# Altium schematic symbol library lm1117.SchLib: 1 symbol
Pins are listed as number, name and electrical type; pins without a type are passive.

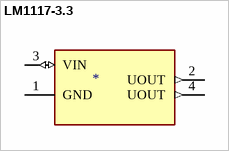
[diagram p0: symbol LM1117-3.3]

## LM1117-3.3
designator ?
Linear Voltage Regulator IC 1 Output 800mA SOT-223-4; MP: LM1117-3.3; MF: Texas Instruments; Availability: Unavailable; Package: SOT-223-4 Texas Instruments; Value: *; Price: None; SnapEDA_Link: https://www.snapeda.com/parts/LM1117-3.3/Texas%20Instruments/view-part/549181/?ref=snap
footprint SOT-223
footprint SOT-223
pins: 1 GND, 2 UOUT (out), 3 VIN (io), 4 UOUT (out)